# Altium integrated library UBT1H331MHD8.IntLib: 1 symbol
Pins are listed as number, name and electrical type; pins without a type are passive.

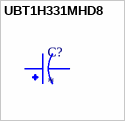
[diagram p0: symbol UBT1H331MHD8]

## UBT1H331MHD8
designator C?
330 ÂµF 50 V Aluminum Electrolytic Capacitors Radial, Can - 10000 Hrs @ 125Â°C; MP: UBT1H331MHD8; MF: Nichicon; Price: None; Purchase-URL: https://pricing.snapeda.com/search/part/UBT1H331MHD8/?ref=eda; Package: Radial Nichicon; Check_prices: https://www.snapeda.com/parts/UBT1H331MHD8/Nichicon/view-part/?ref=eda; SnapEDA_Link: https://www.snapeda.com/parts/UBT1H331MHD8/Nichicon/view-part/?ref=snap; Value: *; Availability: In Stock
footprint CAPPRD500W60D1350H2200
pins: N NEG, P POS